# Altium schematic symbol library TCAN1057AVDDFRQ1.Schlib: 1 symbol
Pins are listed as number, name and electrical type; pins without a type are passive.

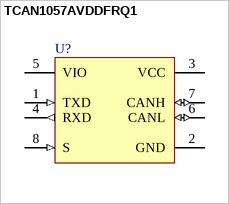
[diagram p0: symbol TCAN1057AVDDFRQ1]

## TCAN1057AVDDFRQ1
designator U?
Automotive Fault-Protected CAN FD Transceiver
pins: 1 TXD (in), 2 GND (power), 3 VCC (power), 4 RXD (out), 5 VIO (power), 6 CANL (io), 7 CANH (io), 8 S (in)